# Altium schematic symbol library lab3.SchLib: 6 symbols
Pins are listed as number, name and electrical type; pins without a type are passive.

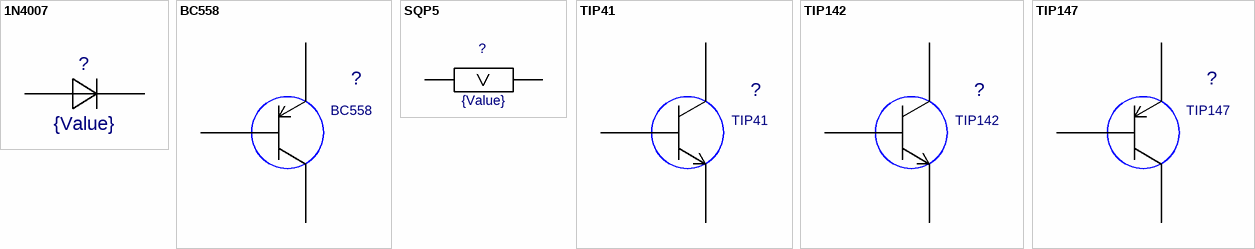
[diagram p0: symbols 1N4007 to TIP147]

## 1N4007
designator ?  value {Value}  (hidden comment: 1N4007)
footprint 1N4007
pins: 1 K, 2 A

## BC558
designator ?
Value: *
footprint BC558
pins: 1, 2, 3

## SQP5
designator ?  value {Value}  (hidden comment: *)
footprint SQP5
pins: 1, 2

## TIP41
designator ?
Value: *
footprint TIP41
pins: 1, 2, 3

## TIP142
designator ?
Value: *
footprint TIP142
pins: 1, 2, 3

## TIP147
designator ?
Value: *
footprint TIP147
pins: 1, 2, 3